# Altium schematic symbol library Pololu.SchLib: 2 symbols
Pins are listed as number, name and electrical type; pins without a type are passive.

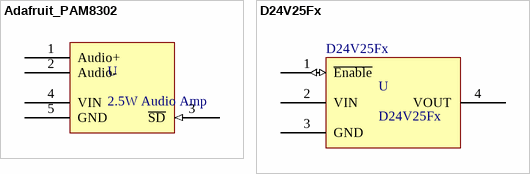
[diagram p0: symbols Adafruit_PAM8302 to D24V25Fx]

## Adafruit_PAM8302
designator U, comment 2.5W Audio Amp
2.5W Class D Audio Amplifier
footprint Adafruit_PAM8302A (Adafruit Mono 2.5W Class D Audio Amplifier - PAM8302)
pins: 1 Audio+, 2 Audio-, 3 ~{SD} (in), 4 VIN (power) "2V to 5.5V", 5 GND (power)

## D24V25Fx
designator U
DC Step Down Regulators from Pololu; Name: D24V25Fx
footprint D24V50Fx (D24V25Fx DC step down regulator)
pins: 1 ~{Enable} (io) "/Enable", 2 VIN (power), 3 GND (power), 4 VOUT (power)